# Altium footprint library SODFL160X80X65L20X30N.PcbLib: 1 footprints
Each footprint in its own frame and in the unit in brackets; x right, y up, seen from the top. Pads: shape width x height; smd on the part's side, far side on the other; paste and mask are expansions set on the pad; w line width, h text height; cw(c..) or ccw(c..) is an arc to the next point about the centre after c.
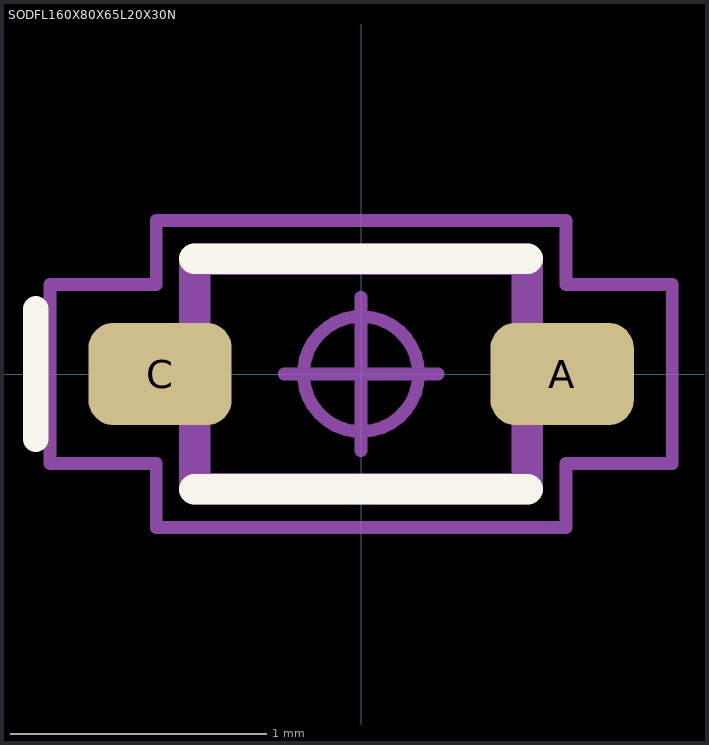
[diagram p0: the footprint, top view; thin cyan lines are the x and y axes]

## SODFL160X80X65L20X30N [mm] "Diode, Small Outline Diode, Flat Lead (SODFL); 1.20 mm L X 0.80 mm W X 0.65 mm H Body"
height 0.65
pads (2):
  rrect50% 0.56x0.4 smd: A(0.785,0) C(-0.785,0)
Top Overlay:
  lines w0.1: -1.27,-0.254 -1.27,0.254
  lines w0.12: -0.65,-0.45 0.65,-0.45 ; -0.65,0.45 0.65,0.45
Mechanical 3:
  lines w0.12: -0.65,-0.45 0.65,-0.45 0.65,0.45 -0.65,0.45 -0.65,-0.45
Mechanical 5:
  lines w0.025: -0.8,-0.15 -0.8,0.15 -0.6,0.15 -0.6,-0.15 -0.8,-0.15 ; -0.6,-0.4 0.6,-0.4 0.6,0.4 -0.6,0.4 -0.6,-0.4 ; 0.6,-0.15 0.8,-0.15 0.8,0.15 0.6,0.15 0.6,-0.15
Mechanical 7:
  circle w0.05: c0,0 r0.225
  lines w0.05: -0.3,0 0.3,0 ; 0,-0.3 0,0.3 ; -1.215,-0.35 -0.8,-0.35 -0.8,-0.6 0.8,-0.6 0.8,-0.35 1.215,-0.35 1.215,0.35 0.8,0.35 0.8,0.6 -0.8,0.6 -0.8,0.35 -1.215,0.35 -1.215,-0.35
Mechanical 9:
  text "'.Designator'" at -5.436,-0.271 h1.02
3D body "SODFL160X80X65L20X30.STEP": height 0.65, standoff 0, extent -0.8,-0.4 0.8,0.4
3D body: height 0.65, standoff 0, extent -1.215,-0.6 1.215,0.6